# EAGLE library part WSL6 (library Wannenstiftleisten)
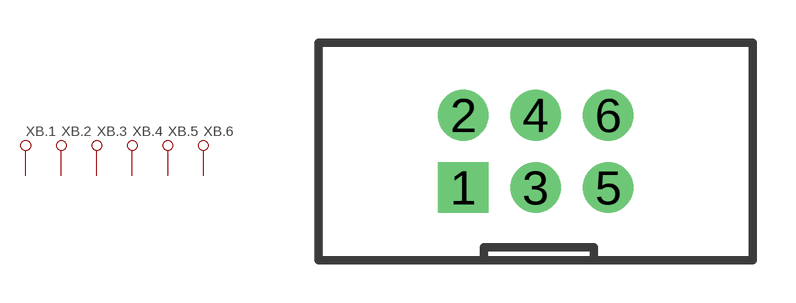
[diagram p1: symbol with the pads of WSL6; footprint WSL6]

Designator prefix XB; gates .1=PIN .2=PIN .3=PIN .4=PIN .5=PIN .6=PIN

## WSL6  [WSL6]
1  .1:.1
2  .2:.1
3  .3:.1
4  .4:.1
5  .5:.1
6  .6:.1

## Footprint WSL6 (pad centres in mm)
drill 0.8 pad 1.778 square: 1 -2.54,-1.27
drill 0.8 pad 1.778: 2 -2.54,1.27; 3 0,-1.27; 4 0,1.27; 5 2.54,-1.27; 6 2.54,1.27